# Altium footprint library 1.04-滤波器.PcbLib: 1 footprints
Each footprint in its own frame and in the unit in brackets; x right, y up, seen from the top. Pads: shape width x height; smd on the part's side, far side on the other; paste and mask are expansions set on the pad; w line width, h text height; cw(c..) or ccw(c..) is an arc to the next point about the centre after c.
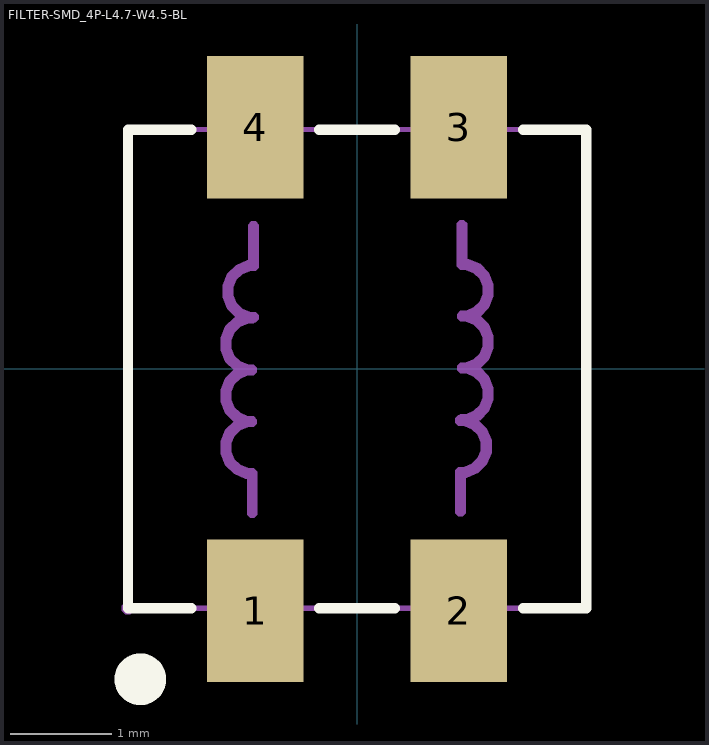
[diagram p0: the footprint, top view; thin cyan lines are the x and y axes]

## FILTER-SMD_4P-L4.7-W4.5-BL [mm]
pads (4):
  rect 0.95x1.4 smd: 1(-1,-2.375) 2(1,-2.375) 3(1,2.375) 4(-1,2.375)
Top Overlay:
  circle w0.254: c-2.129,-3.048 r0.127
  lines w0.102: -1.63,-2.35 -2.25,-2.35 -2.25,2.35 -1.63,2.35 ; -0.37,-2.35 0.37,-2.35 ; -0.37,2.35 0.37,2.35 ; 1.63,-2.35 2.25,-2.35 2.25,2.35 1.63,2.35
Mechanical 6:
  drawing of 12 lines, arcs and shapes, not listed
Mechanical 15:
  region: 1.38,2.349 1.38,1.699 0.63,1.699 0.63,2.349
  region: -0.62,2.349 -0.62,1.699 -1.37,1.699 -1.37,2.349
  region: -0.62,-1.699 -0.62,-2.349 -1.37,-2.349 -1.37,-1.699
  region: 1.38,-1.699 1.38,-2.349 0.63,-2.349 0.63,-1.699
  region: -2.19,-2.35 -2.19,-2.325 -2.225,-2.29 -2.275,-2.29 -2.31,-2.325 -2.31,-2.35 -2.31,-2.375 -2.275,-2.41 -2.225,-2.41 -2.19,-2.375 -2.19,-2.35
  lines w0.051: -2.25,-2.35 -2.25,2.35 2.25,2.35 2.25,-2.35 -2.25,-2.35
3D body "ACM4520.STEP": height 3.61, standoff 1.6, extent -2.224,-2.35 2.286,2.35